# Altium footprint library JST.PcbLib: 3 footprints
Each footprint in its own frame and in the unit in brackets; x right, y up, seen from the top. Pads: shape width x height; smd on the part's side, far side on the other; paste and mask are expansions set on the pad; w line width, h text height; cw(c..) or ccw(c..) is an arc to the next point about the centre after c.
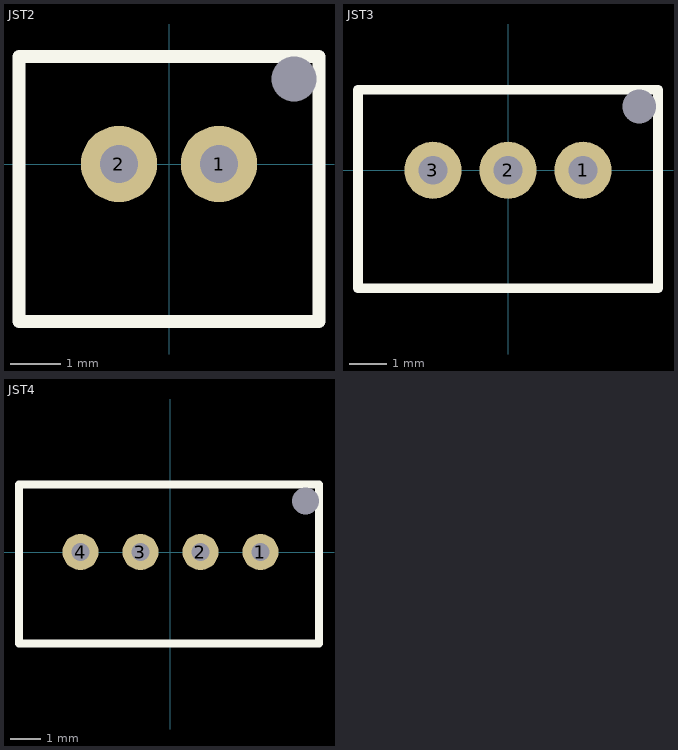
[diagram p0: the footprints below, top view; thin cyan lines are the x and y axes]

## JST2 [mil] "JST Connector With 2 Pins"
height 303.15
pads (3):
  round 60 hole 30: 1(39.37,0) 2(-39.37,0)
  round 0 hole 35.43: ""(98.43,66.93)
Top Overlay:
  lines w10: -118.11,-124.02 -118.11,84.65 118.11,84.65 118.11,-124.02 -118.11,-124.02
3D body "B02B-PASK-1.stp": height 305.12, standoff -116.14, extent -118.11,-122.05 118.11,86.61

## JST3 [mil] "JST Connector With 3 Pins"
height 303.15
pads (4):
  round 60 hole 30: 1(78.74,0) 2(0,0) 3(-78.74,0)
  round 0 hole 35.43: ""(137.8,66.93)
Top Overlay:
  lines w10: -157.48,-124.02 157.48,-124.02 157.48,84.65 -157.48,84.65 -157.48,-124.02
3D body "B03B-PASK-1.stp": height 305.12, standoff -116.14, extent -157.48,-122.05 157.48,86.61

## JST4 [mm] "JST Connector With 4 Pins"
height 7.7
pads (5):
  round 1.2 hole 0.6: 1(3,0) 2(1,0) 3(-1,0) 4(-3,0)
  round 0 hole 0.9: ""(4.5,1.7)
Top Overlay:
  lines w0.254: -5.05,-3.05 -5.05,2.25 4.95,2.25 4.95,-3.05 -5.05,-3.05
3D body "B04B-PASK-1.stp": height 7.75, standoff -2.95, extent -5,-3.1 5,2.2